# Altium schematic symbol library Schlib1.SchLib: 5 symbols
Pins are listed as number, name and electrical type; pins without a type are passive.

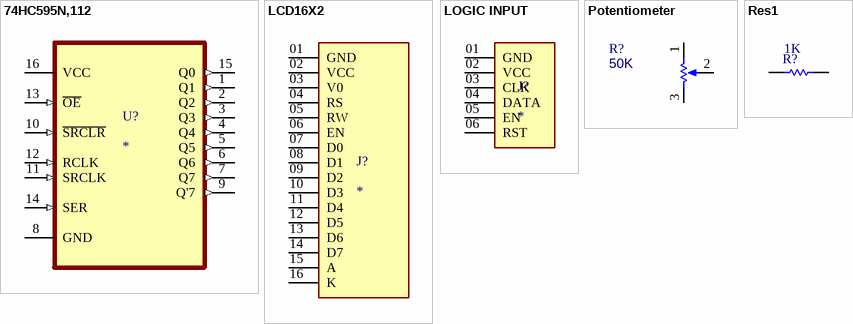
[diagram p0: symbols 74HC595N,112 to Res1]

## 74HC595N,112
designator U?
Shift Shift Register 1 Element 8 Bit 16-DIP; MF: NXP USA; MP: 74HC595N,112; Purchase-URL: https://pricing.snapeda.com/search/part/74HC595N,112/?ref=eda; Package: SOT38-4-16 Nexperia; Value: *; Check_prices: https://www.snapeda.com/parts/74HC595N,112/NXP+USA+Inc./view-part/?ref=eda; SnapEDA_Link: https://www.snapeda.com/parts/74HC595N,112/NXP+USA+Inc./view-part/?ref=snap; Availability: In Stock; Price: None
footprint DIP254P762X420-16
pins: 1 Q1 (out), 2 Q2 (out), 3 Q3 (out), 4 Q4 (out), 5 Q5 (out), 6 Q6 (out), 7 Q7 (out), 8 GND, 9 Q'7 (out), 10 ~{SRCLR} (in), 11 SRCLK (in), 12 RCLK (in), 13 ~{OE} (in), 14 SER (in), 15 Q0 (out), 16 VCC (power)

## LCD16X2
designator J?
MP: TSW-116-07-T-S-LL; Availability: Unavailable; Package: None; Price: None; Value: *
footprint HEADER 16 PIN
pins: 01 GND, 02 VCC, 03 V0, 04 RS, 05 RW, 06 EN, 07 D0, 08 D1, 09 D2, 10 D3, 11 D4, 12 D5, 13 D6, 14 D7, 15 A, 16 K

## LOGIC INPUT
designator J?
Connector Header Through Hole 6 position 0.100 (2.54mm); MF: Samtec; MP: TSW-106-26-T-S; SnapEDA_Link: https://www.snapeda.com/parts/TSW-106-26-T-S/Samtec/view-part/?ref=snap; Package: None; Value: *; Check_prices: https://www.snapeda.com/parts/TSW-106-26-T-S/Samtec/view-part/?ref=eda
footprint HEADER 6 PIN
pins: 01 GND, 02 VCC, 03 CLK, 04 DATA, 05 EN, 06 RST

## Potentiometer
designator R?, comment 50K
4K7; value: 1k; position: 0.5; SimulationGenericComponent: True
simulation model POT (POTENTIOMETER)
footprint TRIMMING POTENTIOMETER
pins: 1 TOP, 2 TAP, 3 BOT

## Res1
designator R?  value 1K
Resistor; Published: 8-Jun-2000; LatestRevisionDate: 17-Jul-2002; LatestRevisionNote: Re-released for DXP Platform.; PackageReference: AXIAL-0.3; Publisher: Altium Limited; PackageDescription: Axial Device, Thru-Hole; 2 Leads; 0.3 in Pin Spacing
simulation model RESISTOR (Resistor)
signal-integrity model Res
footprint AXIAL-0.5 (Axial Device, Thru-Hole; 2 Leads; 0.5 in Pin Spacing)
pins: 1, 2